# Altium schematic symbol library misc.SchLib: 6 symbols
Pins are listed as number, name and electrical type; pins without a type are passive.

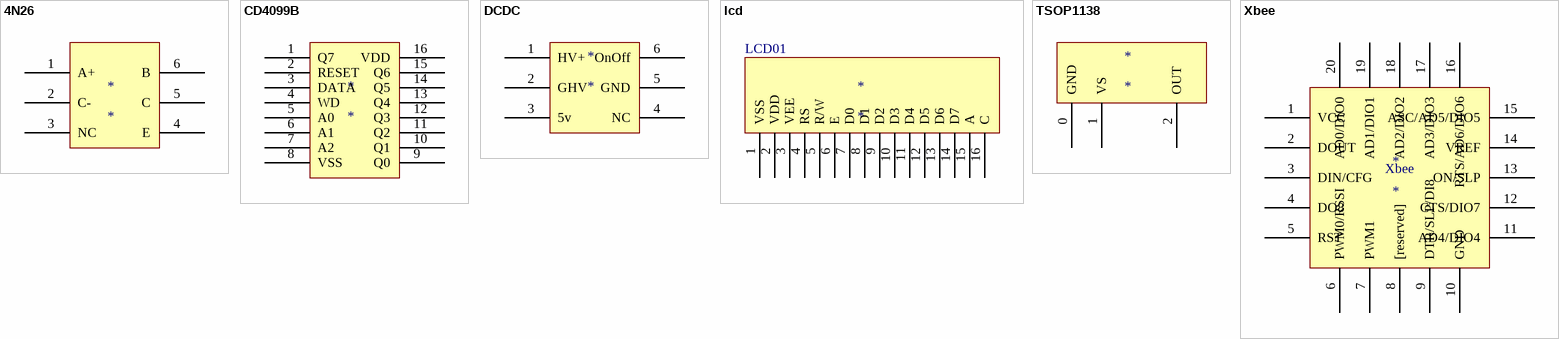
[diagram p0: symbols 4N26 to Xbee]

## 4N26
designator *
footprint 4n26
pins: 1 A+, 2 C-, 3 NC, 4 E, 5 C, 6 B

## CD4099B
designator *
footprint CB4099B
pins: 1 Q7, 2 RESET, 3 DATA, 4 WD, 5 A0, 6 A1, 7 A2, 8 VSS, 9 Q0, 10 Q1, 11 Q2, 12 Q3, 13 Q4, 14 Q5, 15 Q6, 16 VDD

## DCDC
designator *
footprint keicDC
pins: 1 HV+, 2 GHV, 3 5v, 4 NC, 5 GND, 6 OnOff

## lcd
designator *
footprint lcd (LCD 2*16)
pins: 1 VSS, 2 VDD, 3 VEE, 4 RS, 5 R/W, 6 E, 7 D0, 8 D1, 9 D2, 10 D3, 11 D4, 12 D5, 13 D6, 14 D7, 15 A, 16 C
text: LCD01

## TSOP1138
designator *
pins: 0 GND, 1 VS, 2 OUT

## Xbee
designator *
footprint Xbee
pins: 1 VCC, 2 DOUT, 3 DIN/CFG, 4 DO8, 5 RST, 6 PWM0/RSSI, 7 PWM1, 8 [reserved], 9 DTR/SLP/DI8, 10 GND, 11 AD4/DIO4, 12 CTS/DIO7, 13 ON/SLP, 14 VREF, 15 ASC/AD5/DIO5, 16 RTS/AD6/DIO6, 17 AD3/DIO3, 18 AD2/DIO2, 19 AD1/DIO1, 20 AD0/DIO0